# Altium footprint library ATK-2014-09-12.PcbLib: 436 footprints (part 26 of 28)
Each footprint in its own frame and in the unit in brackets; x right, y up, seen from the top. Pads: shape width x height; smd on the part's side, far side on the other; paste and mask are expansions set on the pad; w line width, h text height; cw(c..) or ccw(c..) is an arc to the next point about the centre after c.
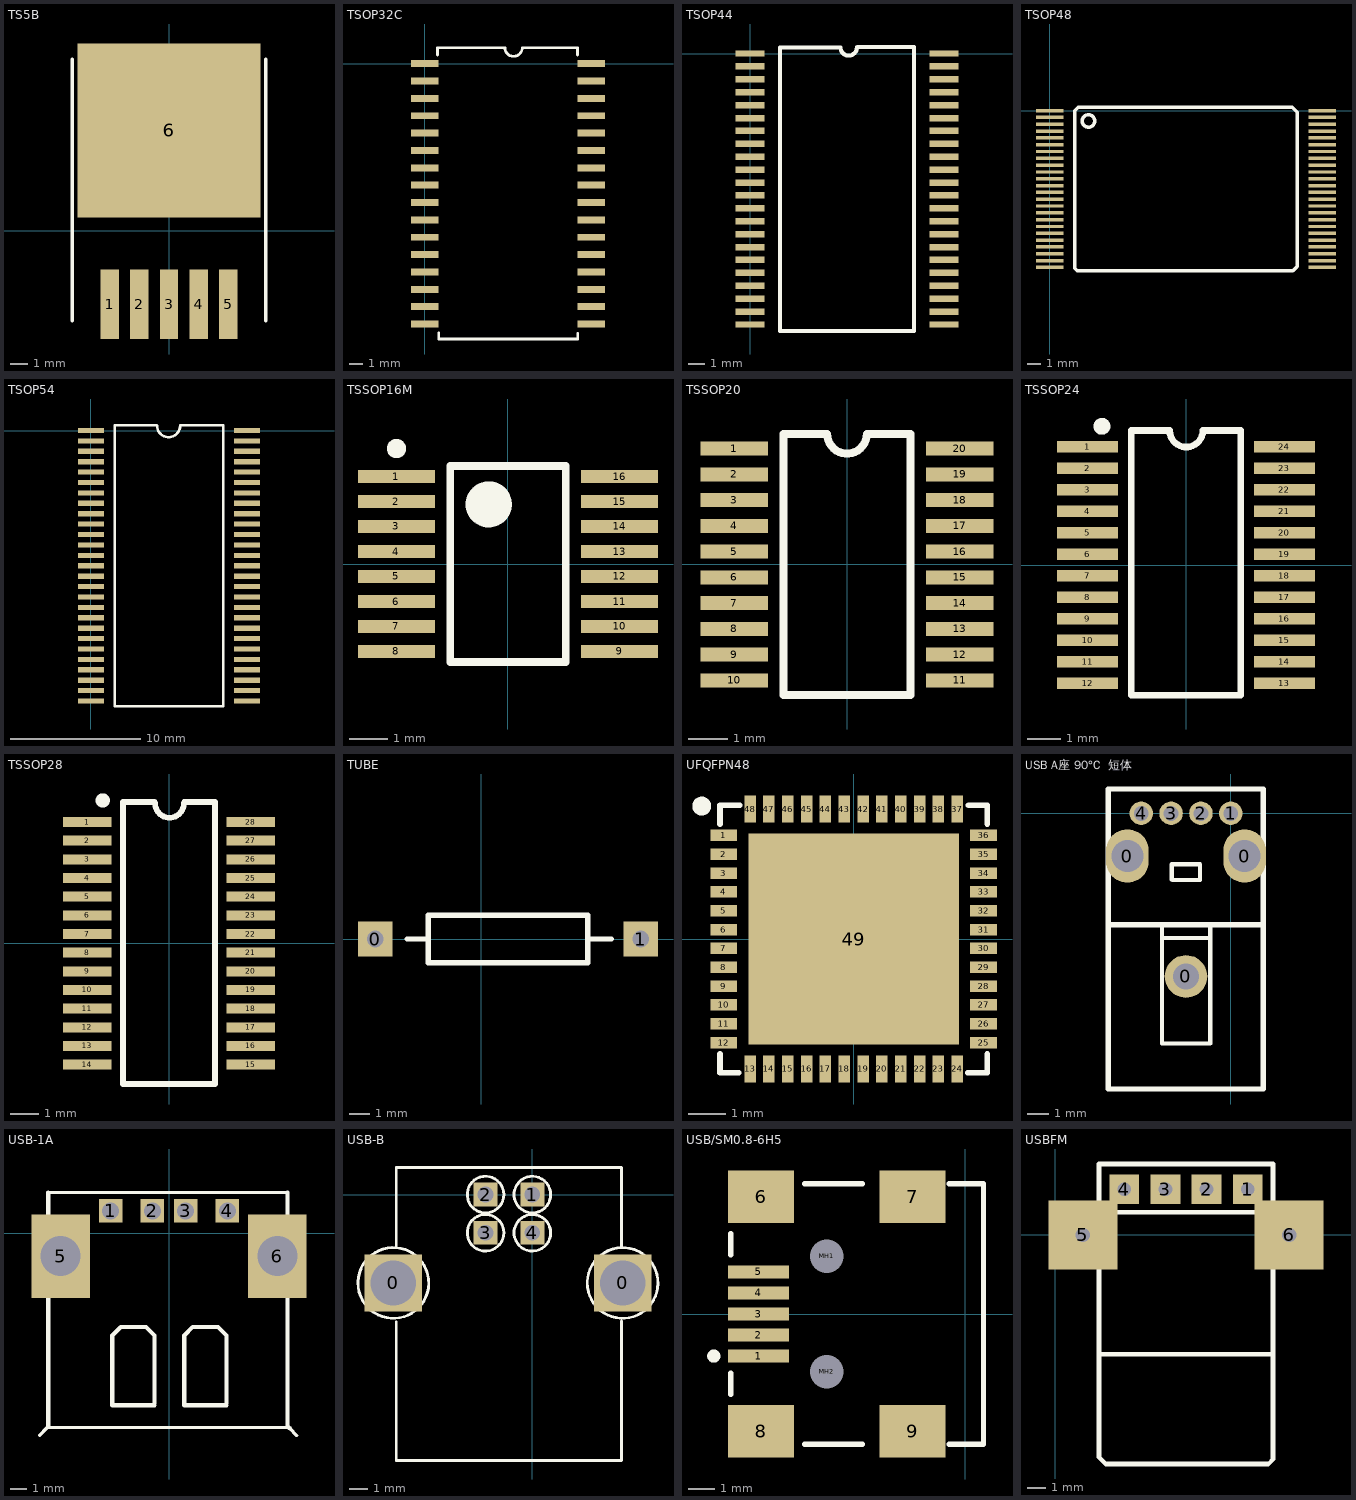
[diagram p25: the footprints below, top view; thin cyan lines are the x and y axes]

## TS5B [mm] "D2-PAK; 5 Leads; Body 14.4 (inc. leads) x 10.4 mm (LxW max)"
height 4.65
pads (6):
  rect 1.05x4 smd: 1(-3.4,-4.225) 2(-1.7,-4.225) 3(0,-4.225) 4(1.7,-4.225) 5(3.4,-4.225)
  rect 10.5x10 smd: 6(0,5.74)
Top Overlay:
  circle w0.25: c-3.4,-5.725 r0.125
  lines w0.2: -5.55,-5.175 -5.55,9.825 ; 5.55,-5.175 5.55,9.825

## TSOP32C [mil]
height 47.24
pads (32):
  rect 80x20 smd: 1(0,0) 2(0,-50) 3(0,-100) 4(0,-150) 5(0,-200) 6(0,-250) 7(0,-300) 8(0,-350) 9(0,-400) 10(0,-450) 11(0,-500) 12(0,-550) 13(0,-600) 14(0,-650) 15(0,-700) 16(0,-750) 17(480,-750) 18(480,-700) 19(480,-650) 20(480,-600) 21(480,-550) 22(480,-500) 23(480,-450) 24(480,-400) 25(480,-350) 26(480,-300) 27(480,-250) 28(480,-200) 29(480,-150) 30(480,-100) 31(480,-50) 32(480,0)
Top Overlay:
  lines w7.87: 40.87,-776 40.87,-793 440.94,-793 440.94,-777.47 ; 231,46 ccw(c256,46) 281,46
  lines w8: 37,25 37,46 231,46 ; 281,46 440,46 440,25

## TSOP44 [mm]
pads (44):
  rect 1.8x0.4 smd: 1(-0.009,0.001) 2(-0.009,-0.799) 3(-0.009,-1.599) 4(-0.009,-2.399) 5(-0.009,-3.199) 6(-0.009,-3.999) 7(-0.009,-4.799) 8(-0.009,-5.599) 9(-0.009,-6.399) 10(-0.009,-7.199) 11(-0.009,-7.999) 12(-0.009,-8.799) 13(-0.009,-9.599) 14(-0.009,-10.399) 15(-0.009,-11.199) 16(-0.009,-11.999) 17(-0.009,-12.799) 18(-0.009,-13.599) 19(-0.009,-14.399) 20(-0.009,-15.199) 21(-0.009,-15.999) 22(-0.009,-16.799) 23(11.991,-16.799) 24(11.991,-15.999) 25(11.991,-15.199) 26(11.991,-14.399) 27(11.991,-13.599) 28(11.991,-12.799) 29(11.991,-11.999) 30(11.991,-11.199) 31(11.991,-10.399) 32(11.991,-9.599) 33(11.991,-8.799) 34(11.991,-7.999) 35(11.991,-7.199) 36(11.991,-6.399) 37(11.991,-5.599) 38(11.991,-4.799) 39(11.991,-3.999) 40(11.991,-3.199) 41(11.991,-2.399) 42(11.991,-1.599) 43(11.991,-0.799) 44(11.991,0.001)
Top Overlay:
  lines w0.2: 1.826,-17.199 10.156,-17.199
  lines w0.254: 6.604,0.381 cw(c6.096,0.381) 5.588,0.381 1.846,0.381 1.846,-17.18 1.826,-17.199 10.156,-17.199 ; 6.624,0.401 10.156,0.401 10.156,-17.199 ; 10.156,-17.199 10.156,-17.199

## TSOP48 [mm]
height 0.8
pads (48):
  rect 2x0.25 smd: 1(0,0) 2(0,-0.5) 3(0,-1) 4(0,-1.5) 5(0,-2) 6(0,-2.5) 7(0,-3) 8(0,-3.5) 9(0,-4) 10(0,-4.5) 11(0,-5) 12(0,-5.5) 13(0,-6) 14(0,-6.5) 15(0,-7) 16(0,-7.5) 17(0,-8) 18(0,-8.5) 19(0,-9) 20(0,-9.5) 21(0,-10) 22(0,-10.5) 23(0,-11) 24(0,-11.5) 25(20,-11.5) 26(20,-11) 27(20,-10.5) 28(20,-10) 29(20,-9.5) 30(20,-9) 31(20,-8.5) 32(20,-8) 33(20,-7.5) 34(20,-7) 35(20,-6.5) 36(20,-6) 37(20,-5.5) 38(20,-5) 39(20,-4.5) 40(20,-4) 41(20,-3.5) 42(20,-3) 43(20,-2.5) 44(20,-2) 45(20,-1.5) 46(20,-1) 47(20,-0.5) 48(20,0)
Top Overlay:
  circle w0.254: c2.844,-0.762 r0.458
  lines w0.254: 9.271,0.25 10.795,0.25 ; 9.652,0.25 2.085,0.25 1.835,0 1.835,-11.553 2.032,-11.75 17.845,-11.75 18.165,-11.43 18.165,-0.135 17.78,0.25 10.668,0.25

## TSOP54 [mm]
pads (54):
  rect 2x0.4 smd: 1(0,0) 2(0,-0.8) 3(0,-1.6) 4(0,-2.4) 5(0,-3.2) 6(0,-4) 7(0,-4.8) 8(0,-5.6) 9(0,-6.4) 10(0,-7.2) 11(0,-8) 12(0,-8.8) 13(0,-9.6) 14(0,-10.4) 15(0,-11.2) 16(0,-12) 17(0,-12.8) 18(0,-13.6) 19(0,-14.4) 20(0,-15.2) 21(0,-16) 22(0,-16.8) 23(0,-17.6) 24(0,-18.4) 25(0,-19.2) 26(0,-20) 27(0,-20.8) 28(12,-20.8) 29(12,-20) 30(12,-19.2) 31(12,-18.4) 32(12,-17.6) 33(12,-16.8) 34(12,-16) 35(12,-15.2) 36(12,-14.4) 37(12,-13.6) 38(12,-12.8) 39(12,-12) 40(12,-11.2) 41(12,-10.4) 42(12,-9.6) 43(12,-8.8) 44(12,-8) 45(12,-7.2) 46(12,-6.4) 47(12,-5.6) 48(12,-4.8) 49(12,-4) 50(12,-3.2) 51(12,-2.4) 52(12,-1.6) 53(12,-0.8) 54(12,0)
Top Overlay:
  lines w0.2: 5.061,0.4 1.835,0.4 1.835,-21.2 10.165,-21.2 10.165,0.4 6.877,0.4 ; 5.08,0.381 ccw(c5.969,0.381) 6.858,0.381

## TSSOP16M [mm] "TSOP, 16-Leads, Body 5x4.4mm, Pitch 0.65mm, IPC Low Density"
height 1.1
pads (16):
  rect 2x0.35 smd: 1(-2.9,2.275) 2(-2.9,1.625) 3(-2.9,0.975) 4(-2.9,0.325) 5(-2.9,-0.325) 6(-2.9,-0.975) 7(-2.9,-1.625) 8(-2.9,-2.275) 9(2.9,-2.275) 10(2.9,-1.625) 11(2.9,-0.975) 12(2.9,-0.325) 13(2.9,0.325) 14(2.9,0.975) 15(2.9,1.625) 16(2.9,2.275)
Top Overlay:
  circle w0.25: c-2.9,3 r0.125
  circle w0.6: c-0.5,1.55 r0.3
  lines w0.2: -1.5,-2.55 -1.5,2.55 1.5,2.55 1.5,-2.55 -1.5,-2.55

## TSSOP20 [mm] "TSOP, 20-Leads, Body 6.6x4.5mm (max), Pitch 0.65mm, IPC Medium Density"
height 1.2
pads (20):
  rect 1.7x0.35 smd: 1(-2.85,2.925) 2(-2.85,2.275) 3(-2.85,1.625) 4(-2.85,0.975) 5(-2.85,0.325) 6(-2.85,-0.325) 7(-2.85,-0.975) 8(-2.85,-1.625) 9(-2.85,-2.275) 10(-2.85,-2.925) 11(2.85,-2.925) 12(2.85,-2.275) 13(2.85,-1.625) 14(2.85,-0.975) 15(2.85,-0.325) 16(2.85,0.325) 17(2.85,0.975) 18(2.85,1.625) 19(2.85,2.275) 20(2.85,2.925)
Top Overlay:
  lines w0.2: -1.6,-3.3 1.6,-3.3 1.6,3.3 0.5,3.3 cw(c0,3.3) -0.5,3.3 -1.6,3.3 -1.6,-3.3

## TSSOP24 [mm] "TSOP, 24-Leads, Body 9.8x4.5mm (max), Pitch 0.65mm, IPC Medium Density"
height 1.2
pads (24):
  rect 1.85x0.35 smd: 1(-2.975,3.575) 2(-2.975,2.925) 3(-2.975,2.275) 4(-2.975,1.625) 5(-2.975,0.975) 6(-2.975,0.325) 7(-2.975,-0.325) 8(-2.975,-0.975) 9(-2.975,-1.625) 10(-2.975,-2.275) 11(-2.975,-2.925) 12(-2.975,-3.575) 13(2.975,-3.575) 14(2.975,-2.925) 15(2.975,-2.275) 16(2.975,-1.625) 17(2.975,-0.975) 18(2.975,-0.325) 19(2.975,0.325) 20(2.975,0.975) 21(2.975,1.625) 22(2.975,2.275) 23(2.975,2.925) 24(2.975,3.575)
Top Overlay:
  circle w0.254: c-2.54,4.191 r0.127
  lines w0.2: -0.508,4.064 -1.65,4.064 -1.65,-3.937 1.65,-3.937 1.65,4.064 0.508,4.064 cw(c0.008,4.064) -0.492,4.064

## TSSOP28 [mm] "TSOP, 28-Leads, Body 9.8x4.5mm (max), Pitch 0.65mm, IPC Medium Density"
height 1.2
pads (28):
  rect 1.7x0.35 smd: 1(-2.85,4.225) 2(-2.85,3.575) 3(-2.85,2.925) 4(-2.85,2.275) 5(-2.85,1.625) 6(-2.85,0.975) 7(-2.85,0.325) 8(-2.85,-0.325) 9(-2.85,-0.975) 10(-2.85,-1.625) 11(-2.85,-2.275) 12(-2.85,-2.925) 13(-2.85,-3.575) 14(-2.85,-4.225) 15(2.85,-4.225) 16(2.85,-3.575) 17(2.85,-2.925) 18(2.85,-2.275) 19(2.85,-1.625) 20(2.85,-0.975) 21(2.85,-0.325) 22(2.85,0.325) 23(2.85,0.975) 24(2.85,1.625) 25(2.85,2.275) 26(2.85,2.925) 27(2.85,3.575) 28(2.85,4.225)
Top Overlay:
  circle w0.25: c-2.309,4.978 r0.125
  lines w0.2: -1.6,4.9 -1.6,-4.9 1.6,-4.9 1.6,4.9 ; -1.6,4.928 -0.508,4.928 ; -0.483,4.877 ccw(c0.017,4.877) 0.517,4.877 ; 0.533,4.928 1.6,4.928

## TUBE [mil] "YTUBE"
height 78.74
pads (2):
  rect 65x65 hole 31.5: 0(-200,0) 1(300,0)
Top Overlay:
  lines w10: -140,0 -100,0 ; 200,0 245,0 ; -100,-45 -100,45 200,45 200,-45 -100,-45

## UFQFPN48 [mm] "QFN, 48-Leads, Body 7.1x7.1mm (max), Pitch 0.50mm, IPC High Density"
height 0.6
pads (49):
  rect 0.711x0.305 smd: 1(-3.45,2.75) 2(-3.45,2.25) 3(-3.45,1.75) 4(-3.45,1.25) 5(-3.45,0.75) 6(-3.45,0.25) 7(-3.45,-0.25) 8(-3.45,-0.75) 9(-3.45,-1.25) 10(-3.45,-1.75) 11(-3.45,-2.25) 12(-3.45,-2.75) 25(3.45,-2.75) 26(3.45,-2.25) 27(3.45,-1.75) 28(3.45,-1.25) 29(3.45,-0.75) 30(3.45,-0.25) 31(3.45,0.25) 32(3.45,0.75) 33(3.45,1.25) 34(3.45,1.75) 35(3.45,2.25) 36(3.45,2.75)
  rect 0.305x0.711 smd: 13(-2.75,-3.45) 14(-2.25,-3.45) 15(-1.75,-3.45) 16(-1.25,-3.45) 17(-0.75,-3.45) 18(-0.25,-3.45) 19(0.25,-3.45) 20(0.75,-3.45) 21(1.25,-3.45) 22(1.75,-3.45) 23(2.25,-3.45) 24(2.75,-3.45) 37(2.75,3.45) 38(2.25,3.45) 39(1.75,3.45) 40(1.25,3.45) 41(0.75,3.45) 42(0.25,3.45) 43(-0.25,3.45) 44(-0.75,3.45) 45(-1.25,3.45) 46(-1.75,3.45) 47(-2.25,3.45) 48(-2.75,3.45)
  rect 5.6x5.6 smd: 49(0,0)
Top Overlay:
  circle w0.25: c-4.037,3.531 r0.125
  lines w0.152: -3.55,-3.054 -3.55,-3.55 -3.054,-3.55 ; -3.55,3.054 -3.55,3.55 -3.029,3.55 ; 3.029,-3.55 3.55,-3.55 3.55,-3.054 ; 3.048,3.55 3.55,3.55 3.55,3.054
3D body: height 0.6, standoff 0.05, extent -3.55,-3.55 3.55,3.55

## USB A座 90°C  短体 [mm]
pads (7):
  oval 2x2.5 hole 1.5: 0(-4.85,-2) 0(0.65,-2)
  round 2 hole 1.2: 0(-2.1,-7.65)
  round 1.1 hole 0.7: 1(0,0) 2(-1.4,0) 3(-2.8,0) 4(-4.2,0)
Top Overlay:
  lines w0.2: -3.226,-5.232 -3.226,-10.795 -2.134,-10.795 -0.965,-10.795 -0.965,-5.207 ; -3.2,-5.842 -0.991,-5.842 ; -2.769,-3.099 -2.769,-2.388 -1.448,-2.388 -1.448,-3.124 -1.473,-3.124 -2.743,-3.124 -2.769,-3.099
  lines w0.254: -5.563,-5.232 1.448,-5.232 ; -5.74,-12.929 -5.74,1.143 1.524,1.143 1.524,-12.929 -5.74,-12.929

## USB-1A [mm]
pads (6):
  rect 1.422x1.422 hole 1.016: 1(-3.5,1.36) 2(-1,1.36) 3(1,1.36) 4(3.5,1.36)
  rect 3.5x5 hole 2.4: 5(-6.5,-1.36) 6(6.5,-1.36)
Top Overlay:
  lines w0.203: -7.772,-12.123 -7.29,-11.64 ; -7.239,2.46 7.112,2.46 ; 7.671,-12.123 7.239,-11.691 7.239,-11.64 -7.264,-11.64 ; -7.29,-11.64 -7.264,-11.64 ; -7.29,-11.64 -7.264,-11.64
  lines w0.254: -7.239,-11.615 -7.239,2.46 ; -2.898,-5.611 -3.406,-6.119 -3.406,-10.31 -0.866,-10.31 ; -2.896,-5.611 -1.374,-5.611 -0.866,-6.119 -0.866,-10.183 ; 1.42,-5.611 0.912,-6.119 0.912,-10.31 3.452,-10.31 ; 1.422,-5.611 2.944,-5.611 3.452,-6.119 3.452,-10.183 ; 7.112,2.46 7.112,-11.564 7.239,-11.691

## USB-B [mil]
pads (6):
  rect 120x120 hole 95: 0(-291,-185) 0(189,-185)
  rect 50x50 hole 33: 1(0,0) 2(-98,0) 3(-98,-80) 4(0,-80)
Top Overlay:
  circle w6: c0,-80 r38.3
  circle w6: c0,0 r38.3
  circle w6: c-98,-80 r38.3
  circle w6: c-98,0 r38.3
  lines w6: -365.04,-185 ccw(c-291,-185) -365,-182.5 ; -285,-266.5 -285,-557 187,-557 187,-264.5 ; -285,-108.5 -285,57 187,57 187,-110.5 ; 114.96,-185 ccw(c189,-185) 115,-182.5

## USB/SM0.8-6H5 [mm]
height 1
pads (11):
  rect 2.3x0.5 smd: 1(-7.85,-1.6) 2(-7.85,-0.8) 3(-7.85,0) 4(-7.85,0.8) 5(-7.85,1.6)
  rect 2.5x2 smd: 6(-7.75,4.45) 7(-1.996,4.45) 8(-7.75,-4.45) 9(-1.996,-4.45)
  rect 0.6x0.6 hole 1.27 unplated: MH1(-5.25,2.2) MH2(-5.25,-2.2)
Top Overlay:
  circle w0.25: c-9.55,-1.6 r0.125
  lines w0.2: -8.9,-3.05 -8.9,-2.25 ; -8.9,2.25 -8.9,3.05 ; -6.1,-4.95 -3.9,-4.95 ; -6.1,4.95 -3.9,4.95 ; -0.6,-4.95 0.7,-4.95 0.7,4.95 -0.6,4.95

## USBFM [mil] "USBFM"
height 196.85
pads (6):
  rect 65x65 hole 30: 1(420,100) 2(330,100) 3(240,100) 4(150,100)
  rect 150x150 hole 31.5: 5(60,0) 6(510,0)
Top Overlay:
  lines w10: 95,-260 475,-260 ; 95,50 475,50 ; 95,-485 110,-500 465,-500 475,-490 475,-195 475,155 95,155 95,-195 95,-485